# EAGLE library part HEADER_6 (library jump)
6-pin Thru-hole Header Used: Next_Gen_Meter
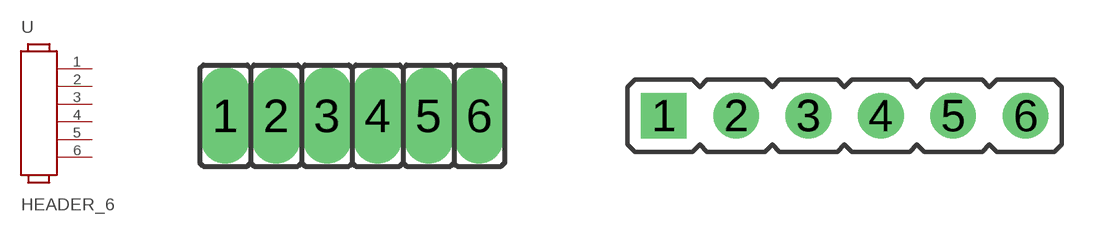
[diagram p0: symbol with the pads of JP6; footprints JP6, CON6]

Designator prefix -

## HEADER_6  [JP6]
1  1
2  2
3  3
4  4
5  5
6  6

## HEADER_6CIRCLE  [CON6]
Pads as for JP6

## Footprint JP6 (pad centres in mm)
6-pin Center Header Single Row 1.27mm spacing, 0.7mm drill
drill 0.7 pad 0.813 long: 1 0,0; 2 1.27,0; 3 2.54,0; 4 3.81,0; 5 5.08,0
drill 0.7 pad 0.8 long: 6 6.35,0

## Footprint CON6 (pad centres in mm)
JUMPER
drill 1.067 square: 1 0,0
drill 1.067 round: 2 2.54,0; 3 5.08,0; 4 7.62,0; 5 10.16,0; 6 12.7,0